# Altium footprint library VL53L7CXV0GC1.PcbLib: 1 footprints
Each footprint in its own frame and in the unit in brackets; x right, y up, seen from the top. Pads: shape width x height; smd on the part's side, far side on the other; paste and mask are expansions set on the pad; w line width, h text height; cw(c..) or ccw(c..) is an arc to the next point about the centre after c.
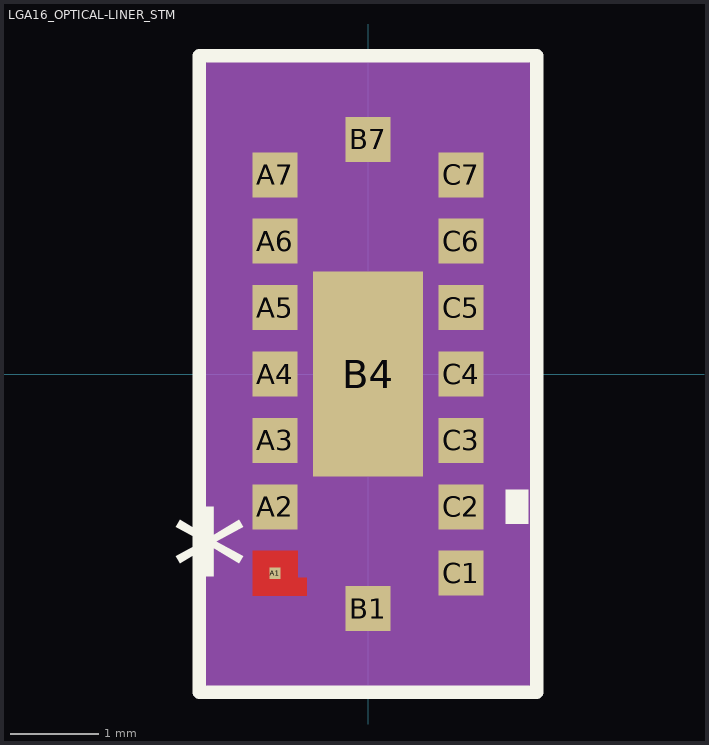
[diagram p0: the footprint, top view; thin cyan lines are the x and y axes]

## LGA16_OPTICAL-LINER_STM [mil]
pads (17):
  rect 5x5 smd paste-2.5 mask-2.5: A1(-41.34,-88.58)
  rect 20x20 smd paste+0 mask+0: A2(-41.34,-59.06) A3(-41.34,-29.53) A4(-41.34,0) A5(-41.34,29.53) A6(-41.34,59.06) A7(-41.34,88.58) B1(0,-104.33) B7(0,104.33) C1(41.34,-88.58) C2(41.34,-59.06) C3(41.34,-29.53) C4(41.34,0) C5(41.34,29.53) C6(41.34,59.06) C7(41.34,88.58)
  rect 49x91 smd paste-45.5 mask-45.5: B4(0,0)
Top Layer:
  region: -31.34,-78.58 -51.34,-78.58 -51.34,-98.58 -27.34,-98.58 -27.34,-90.58 -31.34,-90.58
Top Overlay:
  region: 61.34,-51.56 71.34,-51.56 71.34,-66.56 61.34,-66.56
  lines w6: -75,-141.5 75,-141.5 75,141.5 -75,141.5 -75,-141.5
  text "*" at -87.5,-110 h50
Mechanical 13:
  lines w1: -60,76.5 -10,126.5 ; -60,-126.5 60,-126.5 60,126.5 -60,126.5 -60,-126.5
  text "*" at -32.5,-110 h50
Mechanical 15:
  region: -20,-136.5 -70,-136.5 -70,-108.58 -70,108.58 -70,136.5 -20,136.5 20,136.5 70,136.5 70,108.58 70,-108.58 70,-136.5 20,-136.5
  lines w6: -70,-108.58 -70,-136.5 -20,-136.5 ; -70,-108.58 -70,-108.58 ; -70,-108.58 -70,108.58 ; -70,108.58 -70,108.58 ; -70,108.58 -70,136.5 -20,136.5 ; -20,-136.5 20,-136.5 ; -20,-136.5 -20,-136.5 ; -20,136.5 -20,136.5 ; -20,136.5 20,136.5 ; 20,-136.5 70,-136.5 70,-108.58 ; 20,-136.5 20,-136.5 ; 20,136.5 20,136.5 ; 20,136.5 70,136.5 70,108.58 ; 70,-108.58 70,108.58 ; 70,-108.58 70,-108.58 ; 70,108.58 70,108.58